# EAGLE library part L9110 (library h-bridge)
Motor control driver chip (h-bridge) Voltage range: 2.5V - 12V Continuous current output capability per channel: 800mA
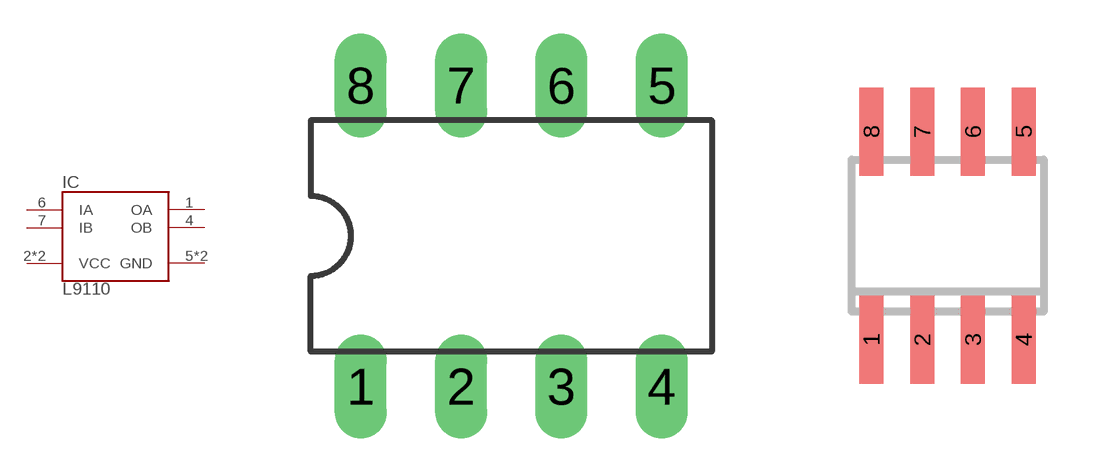
[diagram p0: symbol with the pads of DIL08; footprints DIL08, SO8]

Designator prefix IC

## L9110H  [DIL08]
1  OA  out
2  VCC  pwr
3  VCC  pwr
4  OB  out
5  GND  pwr
6  IA  in
7  IB  in
8  GND  pwr

## L9110S  [SO8]
Pads as for DIL08

## Footprint DIL08 (pad centres in mm)
Dual In Line Package
drill 0.813 long: 1 -3.81,-3.81; 2 -1.27,-3.81; 3 1.27,-3.81; 4 3.81,-3.81; 5 3.81,3.81; 6 1.27,3.81; 7 -1.27,3.81; 8 -3.81,3.81

## Footprint SO8 (pad centres in mm)
8-Lead Small Outline IC (SO-8)
smd 0.6 x 2.2: 1 -1.905,-2.6; 2 -0.635,-2.6; 3 0.635,-2.6; 4 1.905,-2.6; 5 1.905,2.6; 6 0.635,2.6; 7 -0.635,2.6; 8 -1.905,2.6